# Altium footprint library Daxxn_Logos_Art.PcbLib: 14 footprints
Each footprint in its own frame and in the unit in brackets; x right, y up, seen from the top. Pads: shape width x height; smd on the part's side, far side on the other; paste and mask are expansions set on the pad; w line width, h text height; cw(c..) or ccw(c..) is an arc to the next point about the centre after c.
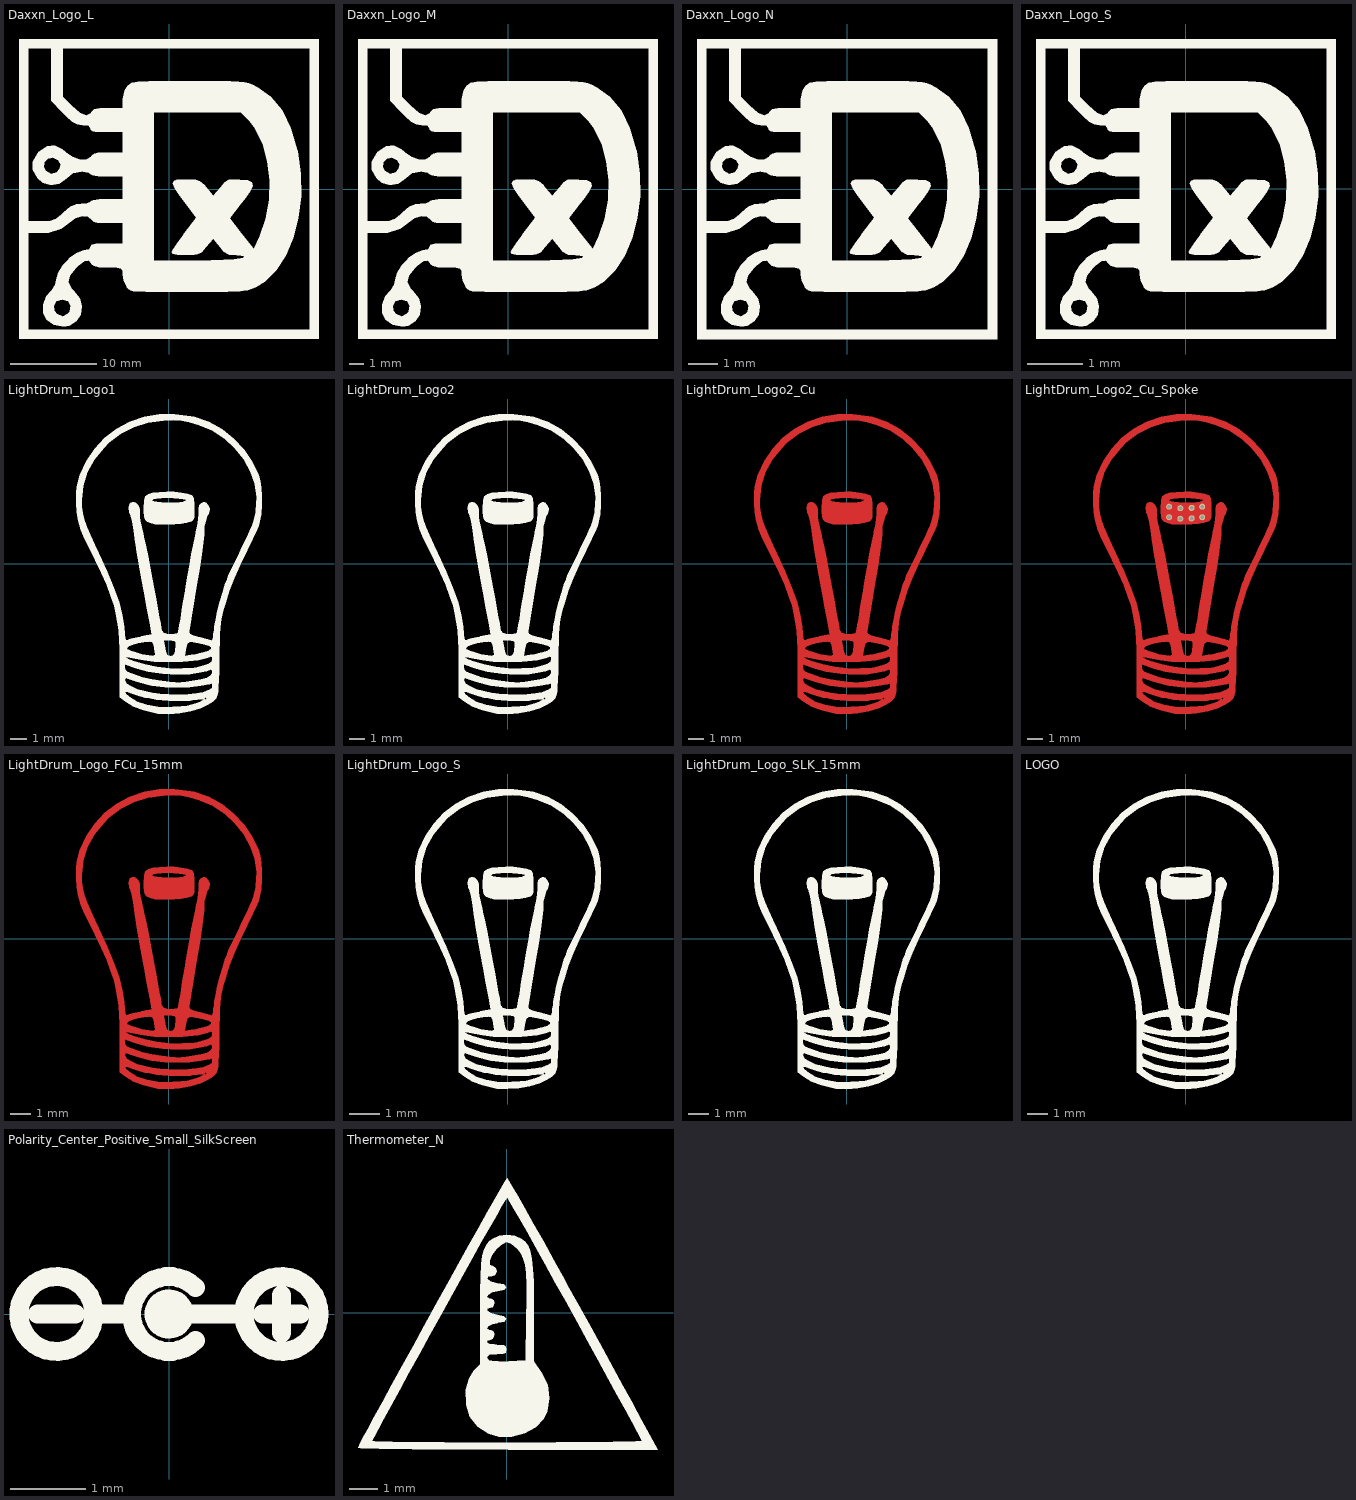
[diagram p0: the footprints below, top view; thin cyan lines are the x and y axes]

## Daxxn_Logo_L [mm]
F.SilkS:
  region: 6 vertices and 5 holes, not listed, extent -17.409,-17.409 17.409,17.409

## Daxxn_Logo_M [mm]
F.SilkS:
  region: 6 vertices and 5 holes, not listed, extent -10.127,-10.127 10.127,10.127

## Daxxn_Logo_N [mm]
F.SilkS:
  region: 6 vertices and 5 holes, not listed, extent -5.182,-5.182 5.182,5.182

## Daxxn_Logo_S [mm]
F.SilkS:
  region: 6 vertices and 5 holes, not listed, extent -2.709,-2.709 2.709,2.709

## LightDrum_Logo1 [mm]
F.SilkS:
  region: 0.333,4.373 0.765,4.332 1.132,4.263 1.39,4.167 1.46,4.115 1.521,3.963 1.557,3.664 1.566,3.339 1.562,3.003 1.545,2.796 1.501,2.675 1.416,2.599 1.312,2.544 1.105,2.485 0.777,2.44 0.372,2.408 -0.061,2.393 -0.478,2.395 -0.83,2.417 -1.069,2.458 -1.286,2.545 -1.422,2.666 -1.492,2.859 -1.513,3.159 -1.507,3.441 -1.491,3.776 -1.478,3.872 -1.464,3.983 -1.413,4.103 -1.322,4.178 -1.237,4.221 -0.952,4.31 -0.567,4.364 -0.125,4.384 hole: -0.084,3.977 -0.43,3.97 -0.714,3.953 -0.888,3.925 -0.897,3.922 -0.997,3.872 -0.943,3.826 -0.883,3.801 -0.702,3.766 -0.406,3.743 -0.047,3.733 0.322,3.736 0.646,3.754 0.843,3.78 1.013,3.831 1.024,3.889 1.002,3.905 0.868,3.937 0.612,3.96 0.279,3.973
  region: 90 vertices and 9 holes, not listed, extent -5.62,-9.118 5.664,9.101

## LightDrum_Logo2 [mm]
F.SilkS:
  region: 0.364,4.788 0.838,4.743 1.239,4.667 1.522,4.562 1.599,4.506 1.665,4.339 1.705,4.012 1.714,3.656 1.711,3.288 1.692,3.061 1.643,2.929 1.55,2.845 1.436,2.785 1.21,2.721 0.85,2.671 0.408,2.637 -0.067,2.62 -0.523,2.623 -0.909,2.646 -1.17,2.692 -1.408,2.786 -1.557,2.919 -1.633,3.13 -1.656,3.459 -1.649,3.768 -1.632,4.134 -1.619,4.239 -1.603,4.36 -1.547,4.492 -1.448,4.574 -1.355,4.622 -1.042,4.719 -0.621,4.778 -0.137,4.8 hole: -0.092,4.354 -0.471,4.347 -0.781,4.328 -0.973,4.298 -0.982,4.294 -1.091,4.239 -1.032,4.189 -0.967,4.162 -0.769,4.123 -0.444,4.098 -0.051,4.087 0.352,4.091 0.708,4.11 0.923,4.138 1.11,4.195 1.121,4.258 1.097,4.276 0.95,4.311 0.67,4.335 0.305,4.35
  region: 90 vertices and 9 holes, not listed, extent -6.153,-9.983 6.201,9.965

## LightDrum_Logo2_Cu [mm]
F.Cu:
  region: 0.364,4.788 0.838,4.743 1.239,4.667 1.522,4.562 1.599,4.506 1.665,4.339 1.705,4.012 1.714,3.656 1.711,3.288 1.692,3.061 1.643,2.929 1.55,2.845 1.436,2.785 1.21,2.721 0.85,2.671 0.408,2.637 -0.067,2.62 -0.523,2.623 -0.909,2.646 -1.17,2.692 -1.408,2.786 -1.557,2.919 -1.633,3.13 -1.656,3.459 -1.649,3.768 -1.632,4.134 -1.619,4.239 -1.603,4.36 -1.547,4.492 -1.448,4.574 -1.355,4.622 -1.042,4.719 -0.621,4.778 -0.137,4.8 hole: -0.092,4.354 -0.471,4.347 -0.781,4.328 -0.973,4.298 -0.982,4.294 -1.091,4.239 -1.032,4.189 -0.967,4.162 -0.769,4.123 -0.444,4.098 -0.051,4.087 0.352,4.091 0.708,4.11 0.923,4.138 1.11,4.195 1.121,4.258 1.097,4.276 0.95,4.311 0.67,4.335 0.305,4.35
  region: 90 vertices and 9 holes, not listed, extent -6.153,-9.983 6.201,9.965

## LightDrum_Logo2_Cu_Spoke [mm]
pads (8):
  round 0.4 hole 0.25: ~(-1.1,3.1) ~(-1.1,3.8) ~(-0.35,3) ~(-0.35,3.7) ~(0.4,3.025) ~(0.4,3.725) ~(1.1,3.1) ~(1.1,3.8)
F.Cu:
  region: 0.364,4.788 0.838,4.743 1.239,4.667 1.522,4.562 1.599,4.506 1.665,4.339 1.705,4.012 1.714,3.656 1.711,3.288 1.692,3.061 1.643,2.929 1.55,2.845 1.436,2.785 1.21,2.721 0.85,2.671 0.408,2.637 -0.067,2.62 -0.523,2.623 -0.909,2.646 -1.17,2.692 -1.408,2.786 -1.557,2.919 -1.633,3.13 -1.656,3.459 -1.649,3.768 -1.632,4.134 -1.619,4.239 -1.603,4.36 -1.547,4.492 -1.448,4.574 -1.355,4.622 -1.042,4.719 -0.621,4.778 -0.137,4.8 hole: -0.092,4.354 -0.471,4.347 -0.781,4.328 -0.973,4.298 -0.982,4.294 -1.091,4.239 -1.032,4.189 -0.967,4.162 -0.769,4.123 -0.444,4.098 -0.051,4.087 0.352,4.091 0.708,4.11 0.923,4.138 1.11,4.195 1.121,4.258 1.097,4.276 0.95,4.311 0.67,4.335 0.305,4.35
  region: 90 vertices and 9 holes, not listed, extent -6.153,-9.983 6.201,9.965

## LightDrum_Logo_FCu_15mm [mm]
F.Cu:
  region: 0.273,3.594 0.629,3.561 0.93,3.504 1.143,3.425 1.2,3.383 1.25,3.257 1.28,3.011 1.287,2.744 1.284,2.469 1.27,2.298 1.234,2.198 1.164,2.136 1.078,2.091 0.908,2.043 0.638,2.005 0.306,1.98 -0.05,1.967 -0.393,1.969 -0.682,1.986 -0.879,2.02 -1.057,2.091 -1.169,2.191 -1.226,2.35 -1.243,2.597 -1.238,2.828 -1.225,3.103 -1.215,3.182 -1.203,3.273 -1.161,3.372 -1.087,3.434 -1.017,3.47 -0.782,3.542 -0.466,3.587 -0.103,3.603 hole: -0.069,3.269 -0.353,3.263 -0.587,3.249 -0.73,3.226 -0.737,3.224 -0.819,3.182 -0.775,3.144 -0.726,3.124 -0.577,3.095 -0.333,3.076 -0.038,3.068 0.264,3.071 0.531,3.085 0.693,3.107 0.833,3.149 0.842,3.196 0.823,3.21 0.713,3.236 0.503,3.255 0.229,3.266
  region: 90 vertices and 9 holes, not listed, extent -4.619,-7.494 4.655,7.481

## LightDrum_Logo_S [mm]
F.SilkS:
  region: 90 vertices and 9 holes, not listed, extent -3.076,-4.992 3.1,4.983
  region: 0.182,2.394 0.419,2.372 0.62,2.334 0.761,2.281 0.8,2.253 0.833,2.169 0.852,2.006 0.857,1.828 0.855,1.644 0.846,1.531 0.822,1.464 0.775,1.423 0.718,1.392 0.605,1.361 0.425,1.336 0.204,1.319 -0.034,1.31 -0.261,1.311 -0.454,1.323 -0.585,1.346 -0.704,1.393 -0.778,1.46 -0.817,1.565 -0.828,1.729 -0.825,1.884 -0.816,2.067 -0.809,2.12 -0.801,2.18 -0.773,2.246 -0.724,2.287 -0.677,2.311 -0.521,2.359 -0.311,2.389 -0.069,2.4 hole: -0.046,2.177 -0.235,2.174 -0.391,2.164 -0.486,2.149 -0.491,2.147 -0.546,2.12 -0.516,2.094 -0.483,2.081 -0.384,2.062 -0.222,2.049 -0.026,2.043 0.176,2.045 0.354,2.055 0.461,2.069 0.555,2.097 0.561,2.129 0.548,2.138 0.475,2.155 0.335,2.168 0.153,2.175

## LightDrum_Logo_SLK_15mm [mm]
F.SilkS:
  region: 0.273,3.594 0.629,3.561 0.93,3.504 1.143,3.425 1.2,3.383 1.25,3.257 1.28,3.011 1.287,2.744 1.284,2.469 1.27,2.298 1.234,2.198 1.164,2.136 1.078,2.091 0.908,2.043 0.638,2.005 0.306,1.98 -0.05,1.967 -0.393,1.969 -0.682,1.986 -0.879,2.02 -1.057,2.091 -1.169,2.191 -1.226,2.35 -1.243,2.597 -1.238,2.828 -1.225,3.103 -1.215,3.182 -1.203,3.273 -1.161,3.372 -1.087,3.434 -1.017,3.47 -0.782,3.542 -0.466,3.587 -0.103,3.603 hole: -0.069,3.269 -0.353,3.263 -0.587,3.249 -0.73,3.226 -0.737,3.224 -0.819,3.182 -0.775,3.144 -0.726,3.124 -0.577,3.095 -0.333,3.076 -0.038,3.068 0.264,3.071 0.531,3.085 0.693,3.107 0.833,3.149 0.842,3.196 0.823,3.21 0.713,3.236 0.503,3.255 0.229,3.266
  region: 90 vertices and 9 holes, not listed, extent -4.619,-7.494 4.655,7.481

## LOGO [mm]
F.SilkS:
  region: 90 vertices and 9 holes, not listed, extent -4.619,-7.494 4.655,7.481
  region: 0.273,3.594 0.629,3.561 0.93,3.504 1.143,3.425 1.2,3.383 1.25,3.257 1.28,3.011 1.287,2.744 1.284,2.469 1.27,2.298 1.234,2.198 1.164,2.136 1.078,2.091 0.908,2.043 0.638,2.005 0.306,1.98 -0.05,1.967 -0.393,1.969 -0.682,1.986 -0.879,2.02 -1.057,2.091 -1.169,2.191 -1.226,2.35 -1.243,2.597 -1.238,2.828 -1.225,3.103 -1.215,3.182 -1.203,3.273 -1.161,3.372 -1.087,3.434 -1.017,3.47 -0.782,3.542 -0.466,3.587 -0.103,3.603 hole: -0.069,3.269 -0.353,3.263 -0.587,3.249 -0.73,3.226 -0.737,3.224 -0.819,3.182 -0.775,3.144 -0.726,3.124 -0.577,3.095 -0.333,3.076 -0.038,3.068 0.264,3.071 0.531,3.085 0.693,3.107 0.833,3.149 0.842,3.196 0.823,3.21 0.713,3.236 0.503,3.255 0.229,3.266

## Polarity_Center_Positive_Small_SilkScreen [mm]
F.SilkS:
  circle w0.254: c-1.5,0 r0.5
  circle w0.254: c0,0 r0.2
  region: 0.078,0.188 0.144,0.144 0.188,0.078 0.204,0 0.188,-0.078 0.144,-0.144 0.078,-0.188 0,-0.204 -0.078,-0.188 -0.144,-0.144 -0.188,-0.078 -0.204,0 -0.188,0.078 -0.144,0.144 -0.078,0.188 0,0.204
  circle w0.254: c1.5,0 r0.5
  lines w0.254: -1.75,0 -1.25,0 ; -0.975,0 -0.525,0 ; 0.175,0 0.975,0 ; 0.354,-0.354 cw(c0,0) 0.354,0.354 ; 1.25,0 1.75,0 ; 1.5,-0.25 1.5,0.25

## Thermometer_N [mm]
F.SilkS:
  region: 0.266,2.67 0.493,2.575 0.498,2.571 0.633,2.46 0.737,2.322 0.814,2.137 0.868,1.882 0.903,1.535 0.922,1.075 0.93,0.479 0.931,0.09 0.931,-1.688 1.197,-2.066 1.407,-2.495 1.476,-2.958 1.401,-3.41 1.279,-3.669 0.999,-3.971 0.615,-4.186 0.173,-4.299 -0.279,-4.298 -0.635,-4.198 -1.015,-3.948 -1.285,-3.602 -1.416,-3.197 -1.417,-3.187 -1.424,-2.671 -1.314,-2.265 -1.143,-2.014 -0.931,-1.785 -0.931,-0.543 -0.931,0.041 -0.928,0.727 -0.916,1.266 -0.891,1.678 -0.85,1.986 -0.789,2.211 -0.704,2.375 -0.591,2.499 -0.498,2.571 -0.275,2.668 -0.008,2.709 0,2.709 hole: -0.025,2.438 -0.194,2.348 -0.345,2.208 -0.507,1.999 -0.585,1.803 -0.57,1.659 -0.466,1.609 -0.362,1.538 -0.339,1.439 -0.397,1.299 -0.515,1.27 -0.653,1.241 -0.661,1.174 -0.563,1.098 -0.384,1.041 -0.311,1.032 -0.086,0.983 0,0.893 0,0.889 -0.079,0.798 -0.299,0.747 -0.311,0.746 -0.499,0.704 -0.633,0.632 -0.682,0.558 -0.616,0.512 -0.557,0.508 -0.446,0.437 -0.423,0.339 -0.479,0.198 -0.557,0.169 -0.673,0.141 -0.662,0.074 -0.556,-0.002 -0.384,-0.059 -0.311,-0.069 -0.086,-0.117 0,-0.207 0,-0.212 -0.079,-0.303 -0.299,-0.354 -0.311,-0.355 -0.499,-0.397 -0.633,-0.469 -0.682,-0.543 -0.616,-0.588 -0.557,-0.593 -0.446,-0.663 -0.423,-0.762 -0.476,-0.9 -0.55,-0.931 -0.663,-0.977 -0.677,-1.016 -0.602,-1.069 -0.415,-1.099 -0.339,-1.101 -0.117,-1.115 -0.019,-1.172 0,-1.27 -0.028,-1.381 -0.143,-1.43 -0.339,-1.439 -0.589,-1.463 -0.677,-1.535 -0.618,-1.64 -0.509,-1.667 -0.28,-1.68 0.022,-1.676 0.039,-1.676 0.635,-1.651 0.66,-0.212 0.669,0.452 0.666,0.97 0.648,1.365 0.612,1.661 0.556,1.88 0.475,2.047 0.368,2.184 0.338,2.215 0.134,2.393
  region: 0.057,4.585 0.182,4.378 0.372,4.052 0.619,3.619 0.915,3.094 1.252,2.492 1.622,1.826 2.017,1.11 2.081,0.995 2.502,0.229 2.918,-0.527 3.317,-1.253 3.688,-1.928 4.021,-2.533 4.304,-3.047 4.527,-3.451 4.666,-3.704 5.239,-4.741 0.037,-4.741 -0.884,-4.74 -1.753,-4.738 -2.556,-4.733 -3.277,-4.728 -3.903,-4.721 -4.419,-4.713 -4.811,-4.704 -5.064,-4.694 -5.164,-4.684 -5.165,-4.683 -5.125,-4.595 -5.047,-4.443 -5.011,-4.375 -4.833,-4.039 -4.597,-3.603 -4.313,-3.08 -3.989,-2.488 -3.634,-1.84 -3.255,-1.153 -2.863,-0.442 -2.464,0.279 -2.067,0.994 -1.682,1.687 -1.316,2.343 -0.978,2.947 -0.676,3.483 -0.419,3.937 -0.215,4.293 -0.073,4.536 -0.001,4.65 0.006,4.657 hole: 0.006,3.979 -0.041,3.908 -0.161,3.704 -0.344,3.384 -0.581,2.963 -0.865,2.458 -1.185,1.886 -1.533,1.261 -1.9,0.601 -2.277,-0.079 -2.655,-0.763 -3.025,-1.434 -3.379,-2.076 -3.707,-2.674 -4.001,-3.211 -4.251,-3.671 -4.449,-4.038 -4.585,-4.296 -4.652,-4.429 -4.657,-4.443 -4.575,-4.451 -4.338,-4.459 -3.963,-4.466 -3.465,-4.472 -2.858,-4.478 -2.159,-4.482 -1.382,-4.485 -0.542,-4.487 0,-4.487 0.87,-4.486 1.688,-4.484 2.437,-4.48 3.103,-4.474 3.67,-4.468 4.123,-4.46 4.446,-4.452 4.625,-4.443 4.657,-4.437 4.617,-4.351 4.504,-4.134 4.327,-3.803 4.095,-3.373 3.816,-2.861 3.499,-2.282 3.154,-1.653 2.789,-0.99 2.414,-0.309 2.036,0.374 1.665,1.043 1.31,1.681 0.98,2.273 0.684,2.802 0.43,3.253 0.228,3.609 0.086,3.853 0.013,3.971